# Altium footprint library misc.PCBLIB: 49 footprints (part 1 of 4)
Each footprint in its own frame and in the unit in brackets; x right, y up, seen from the top. Pads: shape width x height; smd on the part's side, far side on the other; paste and mask are expansions set on the pad; w line width, h text height; cw(c..) or ccw(c..) is an arc to the next point about the centre after c.
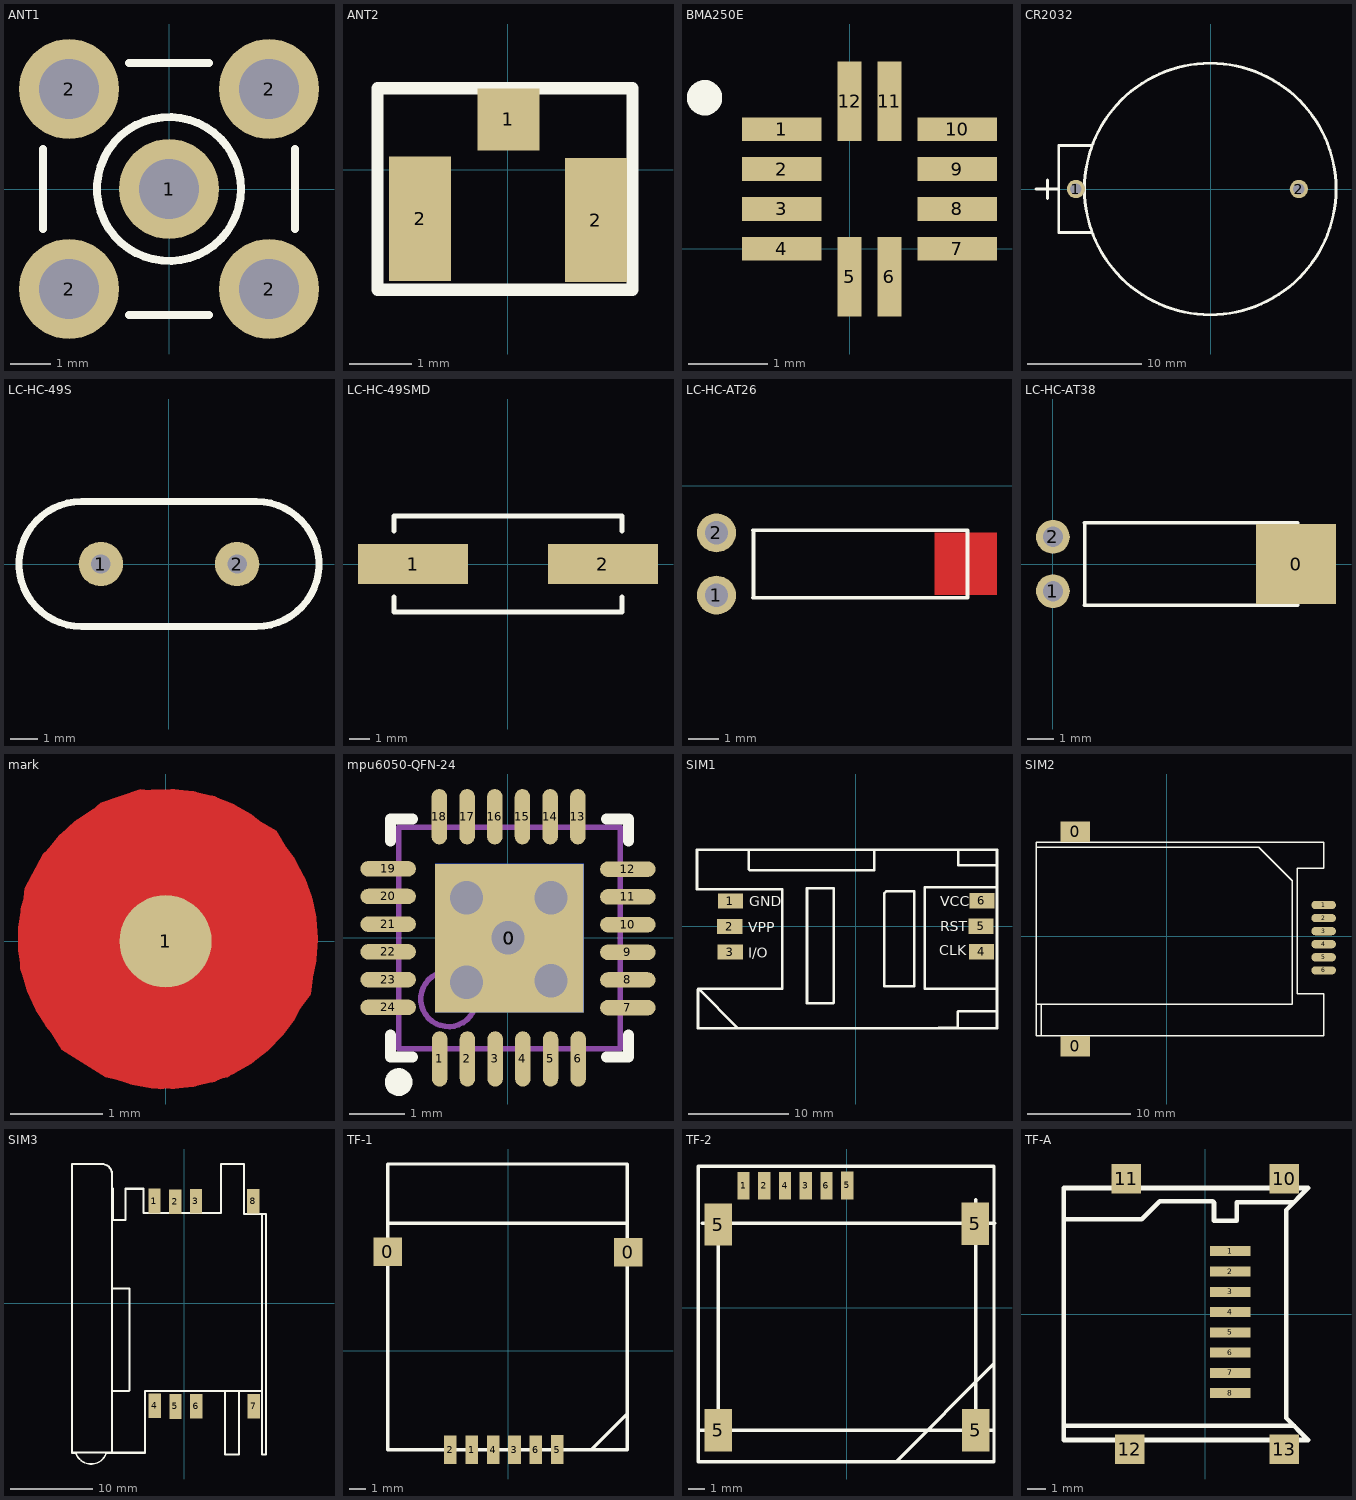
[diagram p0: the footprints below, top view; thin cyan lines are the x and y axes]

## ANT1 [mm] "天线接口 插件"
height 3.81
pads (5):
  round 2.5 hole 1.5: 1(0,0) 2(-2.5,-2.5) 2(-2.5,2.5) 2(2.5,-2.5) 2(2.5,2.5)
TopOverlay:
  circle w0.2: c0,0 r1.8
  lines w0.2: -3.15,-1 -3.15,1 ; -1,-3.15 1,-3.15 ; -1,3.15 1,3.15 ; 3.15,-1 3.15,1
Mechanical1:
  circle w0.025: c0,0 r0.2
  circle w0.025: c0,0 r1.05
  circle w0.025: c0,0 r1.8

## ANT2 [mm] "天线接口 贴片"
pads (3):
  rect 1x1 smd: 1(0.008,0.811)
  rect 1x2 smd: 2(-1.414,-0.788) 2(1.415,-0.81)
TopOverlay:
  lines w0.2: -2.1,-1.932 2.005,-1.932 2.005,1.311 -2.1,1.311 -2.1,-1.932

## BMA250E [mm]
height 2.54
pads (12):
  rect 1x0.3 smd: 1(-0.85,1.5) 2(-0.85,1) 3(-0.85,0.5) 4(-0.85,0) 7(1.35,0) 8(1.35,0.5) 9(1.35,1) 10(1.35,1.5)
  rect 0.3x1 smd: 5(0,-0.35) 6(0.5,-0.35) 11(0.5,1.85) 12(0,1.85)
TopOverlay:
  circle w0.254: c-1.82,1.895 r0.095

## CR2032 [mm] "电池 纽扣座"
pads (2):
  round 1.6 hole 1: 1(-11.8,0) 2(7.7,0)
TopOverlay:
  circle w0.254: c-0.05,0 r11
  lines w0.254: -15.291,0 -13.3,0 ; -14.3,-0.838 -14.3,0.787 ; -10.5,-3.8 -13.3,-3.8 -13.3,3.8 -10.5,3.8

## LC-HC-49S [mm]
pads (2):
  round 1.6 hole 0.7: 1(-2.45,0) 2(2.45,0)
TopOverlay:
  lines w0.254: -3.15,-2.248 cw(c-3.15,0) -3.15,2.248 3.15,2.248 cw(c3.15,0) 3.15,-2.248 -3.15,-2.248
3D body: height 3.6, standoff -2.9, extent -5.388,-2.27 5.412,2.23

## LC-HC-49SMD [mm]
pads (2):
  rect 5.5x2 smd: 1(-4.75,0) 2(4.75,0)
TopOverlay:
  lines w0.254: -5.7,-1.65 -5.7,-2.4 5.7,-2.4 5.7,-1.65 ; -5.7,1.65 -5.7,2.4 5.7,2.4 5.7,1.65
3D body: height 4, standoff 0, extent -6.7,-2.462 6.7,2.438

## LC-HC-AT26 [mil]
pads (2):
  round 50 hole 30: 1(60,-140.35) 2(60,-60.35)
TopLayer:
  rectangle: 340,-140 420,-60
TopOverlay:
  rectangle: 104.72,-143.61 110,-57
  lines w5: 106.49,-143.61 382.08,-143.61 382.08,-57 106.49,-57
TopSolder:
  rectangle: 340,-140 420,-60

## LC-HC-AT38 [mm]
pads (3):
  rect 3x3 smd: 0(9.144,0)
  round 1.27 hole 0.762: 1(0,-1.02) 2(0,1.02)
TopOverlay:
  rectangle: 1.136,-1.55 1.27,1.55
  lines w0.127: 1.181,-1.55 9.2,-1.55 9.2,1.55 1.181,1.55

## mark [mm] "加工定位"
pads (1):
  round 1 smd: 1(0,0)
TopLayer:
  circle w0.254: c0.025,0.025 r1.5
  pour cut-out: 1.2,1.2 1.525,0.65 1.65,0.05 1.575,-0.575 1.2,-1.075 0.675,-1.475 -0.05,-1.6 -0.65,-1.475 -1.125,-1.175 -1.45,-0.65 -1.575,-0.3 -1.575,0.1 -1.525,0.575 -1.325,0.95 -0.7,1.5 -0.275,1.65 0.15,1.6 0.725,1.475

## mpu6050-QFN-24 [mm]
height 6
pads (28):
  rect 2.68x2.68 smd: 0(0.026,-0.004)
  rect 2.68x2.68 smd far side: 0(0.026,-0.004)
  rect 2.68x2.68 on Top Solder: 0(0.026,-0.004)
  rect 2.68x2.68 on Bottom Solder: 0(0.026,-0.004)
  oval 0.28x1 smd: 1(-1.232,-2.186) 2(-0.732,-2.186) 3(-0.232,-2.186) 4(0.268,-2.186) 5(0.768,-2.186) 6(1.268,-2.186) 13(1.261,2.186) 14(0.761,2.186) 15(0.261,2.186) 16(-0.239,2.186) 17(-0.739,2.186) 18(-1.239,2.186)
  oval 1x0.28 smd: 7(2.163,-1.261) 8(2.163,-0.761) 9(2.163,-0.261) 10(2.163,0.239) 11(2.163,0.739) 12(2.163,1.239) 19(-2.163,1.246) 20(-2.163,0.746) 21(-2.163,0.246) 22(-2.163,-0.254) 23(-2.163,-0.754) 24(-2.163,-1.254)
via -0.75,0.725 diameter 0.9 hole 0.6
via 0.775,0.725 diameter 0.9 hole 0.6
via -0.75,-0.8 diameter 0.9 hole 0.6
via 0.775,-0.775 diameter 0.9 hole 0.6
via 0,0 diameter 0.9 hole 0.6
TopOverlay:
  circle w0.25: c-1.974,-2.604 r0.125
  lines w0.2: -2.124,-1.754 -2.124,-2.154 -1.724,-2.154 ; -2.124,1.746 -2.124,2.146 -1.724,2.146 ; 1.776,-2.154 2.176,-2.154 2.176,-1.754 ; 1.776,2.146 2.176,2.146 2.176,1.746
Mechanical13:
  circle w0.1: c-1.074,-1.104 r0.5
  lines w0.1: -1.974,-2.004 -1.974,1.996 2.026,1.996 2.026,-2.004 -1.974,-2.004

## SIM1 [mm] "SIM座"
pads (6):
  rect 2.5x1.5 smd: 1(-12.484,2.527) 2(-12.56,-0.013) 3(-12.509,-2.553) 4(12.535,-2.527) 5(12.484,0.013) 6(12.56,2.553)
TopOverlay:
  lines w0.25: -11.72,-10.157 -15.675,-6.202 ; -10.655,7.592 -10.655,5.677 -10.579,5.601 1.842,5.601 1.842,7.643 ; 5.118,3.518 5.779,3.518 5.804,3.493 5.804,-5.982 2.832,-5.982 2.832,3.289 3.061,3.518 5.55,3.518 ; 8.252,-10.122 10.173,-10.122 ; 8.75,-10.157 -15.72,-10.157 -15.72,-6.31 -15.675,-6.202 ; 14.059,-10.157 10.137,-10.157 10.173,-10.122 ; 14.059,-10.112 14.059,7.643 13.668,7.643 10.224,7.643 ; 14.059,-8.471 10.198,-8.471 10.173,-8.496 10.173,-10.122 ; 14.059,-6.236 6.886,-6.236 6.886,3.874 14.059,3.874 14.059,6.083 10.224,6.083 10.224,7.643 ; -15.675,-6.202 -7.314,-6.202 -7.314,3.704 -15.82,3.704 -15.82,7.643 10.224,7.643 ; -4.864,-7.633 -4.864,3.797 -2.197,3.797 -2.197,-7.582 -2.248,-7.633 -4.864,-7.633
  text "CLK" at 8.3,-2.9 h1.02
  text "RST" at 8.4,-0.5 h1.02
  text "VCC" at 8.4,2 h1.02
  text "I/O" at -10.7,-3.1 h1.02
  text "GND" at -10.6,2 h1.02
  text "VPP" at -10.7,-0.6 h1.02

## SIM2 [mm] "SD座"
pads (8):
  rect 2.89x2 smd: 0(-8.887,-10.665) 0(-8.887,10.163)
  oval 2.4x0.8 smd: 1(15.243,3.051) 2(15.243,1.781) 3(15.243,0.511) 4(15.243,-0.759) 5(15.243,-2.029) 6(15.243,-3.299)
TopOverlay:
  lines w0.127: -12.697,-6.601 12.195,-6.601 12.195,5.388 8.944,8.639 -12.697,8.639 ; -12.189,-9.649 -12.189,-6.601 ; -12.697,-9.649 15.243,-9.649 15.243,-5.585 12.703,-5.585 12.703,6.607 15.243,6.607 15.243,9.147 -12.697,9.147 -12.697,-9.649

## SIM3 [mm] "SD座"
pads (8):
  rect 1.5x3 smd: 1(-3.631,12.474) 2(-1.091,12.398) 3(1.449,12.449) 4(-3.605,-12.57) 5(-1.065,-12.646) 6(1.475,-12.596) 7(8.5,-12.6) 8(8.449,12.449)
TopOverlay:
  lines w0.2: -13.265,-18.289 ccw(c-11.377,-17.7) -9.494,-18.302
  lines w0.25: -13.3,-18.3 -13.7,-18.3 -13.7,17 -10.8,17 -10.07,17 cw(c-10.07,15.73) -8.8,15.73 -8.8,-18.3 ; -13.265,-18.289 -9.5,-18.3 -8.8,-18.3 ; -8.721,1.755 -6.679,1.755 -6.679,-10.665 -6.755,-10.741 -8.67,-10.741 ; -8.721,13.973 -8.721,13.582 -8.721,10.137 -7.161,10.137 -7.161,13.973 -4.952,13.973 -4.952,11 4.5,11 4.5,17 7.3,17 7.3,10.9 9.9,10.9 ; -4.862,-18.3 -8.8,-18.3 ; -4.782,-18.3 -4.782,-10.775 9.5,-10.775 ; 5,-10.775 5,-18.5 6.7,-18.5 6.7,-10.8 ; 9.5,10.9 9.5,-18.5 10,-18.5 10,10.9

## TF-1 [mm] "SD座"
height 3.81
pads (8):
  rect 1.7x1.7 smd: 0(-7.15,5.894) 0(7.15,5.856)
  rect 0.75x1.7 smd: 1(-2.156,-5.893) 2(-3.426,-5.893) 3(0.384,-5.893) 4(-0.886,-5.893) 5(2.924,-5.881) 6(1.654,-5.893)
TopOverlay:
  lines w0.2: -7.15,7.575 -7.142,7.584 7.091,7.584 ; 4.95,-5.893 7.091,-3.752 ; 7.083,11.107 -7.15,11.107 -7.15,-5.902 7.091,-5.902 7.091,11.107

## TF-2 [mm] "SD座"
pads (10):
  rect 0.75x1.7 smd: 1(-6.34,7.489) 2(-5.07,7.489) 3(-2.53,7.489) 4(-3.8,7.489) 5(0.01,7.501) 6(-1.26,7.489)
  rect 1.7x2.6 smd: 5(-7.9,-7.5) 5(-7.9,5.106) 5(7.871,5.156) 5(7.9,-7.5)
TopOverlay:
  lines w0.2: -9.115,-7.511 8.93,-7.511 ; -8.899,5.189 9.06,5.189 ; -7.9,-8.627 -7.9,6.256 ; 3.011,-9.446 9.014,-3.443 9.014,-2.933 ; 7.9,-8.579 7.9,6.621 ; 8.973,-9.446 -9.118,-9.446 -9.118,8.685 9.016,8.685 ; 9.014,-9.446 9.014,8.685

## TF-A [mm] "SD座"
pads (12):
  rect 2.2x0.54 smd: 1(1.35,3.415) 2(1.35,2.3) 3(1.35,1.2) 4(1.35,0.1) 5(1.35,-1) 6(1.35,-2.1) 7(1.35,-3.2) 8(1.35,-4.3)
  rect 1.6x1.6 smd: 10(4.3,7.35) 11(-4.3,7.35) 12(-4.1,-7.35) 13(4.3,-7.35)
TopOverlay:
  lines w0.254: -7.7,-6.075 4.825,-6.075 ; -7.7,5.15 -3.45,5.15 -2.475,6.125 0.4,6.125 0.475,6.05 0.475,5.075 1.7,5.075 1.7,6.075 ; 1.75,6.025 1.7,6.075 ; 4.775,6.075 1.7,6.075 ; -7.7,-6.85 5.6,-6.85 4.4,-5.65 4.4,5.65 5.6,6.85 -7.7,6.85 -7.7,-6.85